# Altium schematic symbol library M20-7820742.SchLib: 1 symbol
Pins are listed as number, name and electrical type; pins without a type are passive.

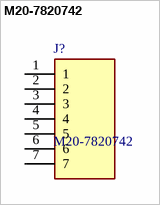
[diagram p0: symbol M20-7820742]

## M20-7820742
designator J?
Headers & Wire Housings 7 PIN SIL VERTICAL SOCKET GOLD+TIN; Manufacturer_Name: Harwin; Geometry.Height: 8.65mm; Manufacturer_Part_Number: M20-7820742; Mouser Part Number: 855-M20-7820742; Mouser Price/Stock: https://www.mouser.co.uk/ProductDetail/Harwin/M20-7820742?qs=vF78I%252BjhbY%252BKj4l6HUOnzg%3D%3D; Arrow Part Number: *; Arrow Price/Stock: *; Datasheet Link: https://cdn.harwin.com/pdfs/M20-782.pdf
footprint RHDR7W70P0X254_1X7_1818X250X865P
pins: 1, 2, 3, 4, 5, 6, 7